# Altium footprint library LQFP-32_7x7x08P.PcbLib: 1 footprints
Each footprint in its own frame and in the unit in brackets; x right, y up, seen from the top. Pads: shape width x height; smd on the part's side, far side on the other; paste and mask are expansions set on the pad; w line width, h text height; cw(c..) or ccw(c..) is an arc to the next point about the centre after c.
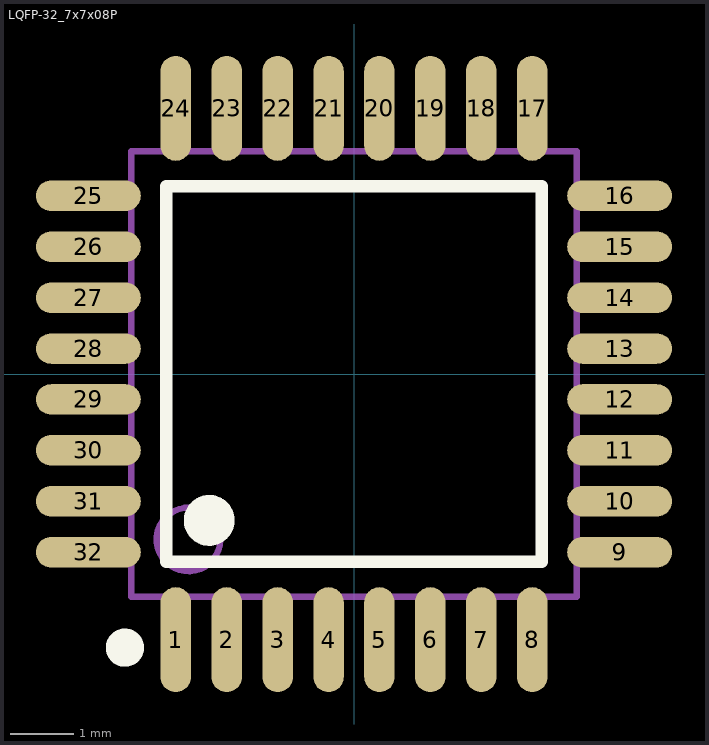
[diagram p0: the footprint, top view; thin cyan lines are the x and y axes]

## LQFP-32_7x7x08P [mm]
pads (32):
  oval 0.48x1.65 smd: 1(-2.8,-4.175) 2(-2,-4.175) 3(-1.2,-4.175) 4(-0.4,-4.175) 5(0.4,-4.175) 6(1.2,-4.175) 7(2,-4.175) 8(2.8,-4.175) 17(2.8,4.175) 18(2,4.175) 19(1.2,4.175) 20(0.4,4.175) 21(-0.4,4.175) 22(-1.2,4.175) 23(-2,4.175) 24(-2.8,4.175)
  oval 1.65x0.48 smd: 9(4.175,-2.8) 10(4.175,-2) 11(4.175,-1.2) 12(4.175,-0.4) 13(4.175,0.4) 14(4.175,1.2) 15(4.175,2) 16(4.175,2.8) 25(-4.175,2.8) 26(-4.175,2) 27(-4.175,1.2) 28(-4.175,0.4) 29(-4.175,-0.4) 30(-4.175,-1.2) 31(-4.175,-2) 32(-4.175,-2.8)
Top Overlay:
  circle w0.4: c-2.275,-2.3 r0.2
  circle w0.3: c-3.6,-4.3 r0.15
  lines w0.2: -2.95,-2.95 -2.95,2.95 2.95,2.95 2.95,-2.95 -2.95,-2.95
Mechanical 13:
  circle w0.1: c-2.6,-2.6 r0.5
  lines w0.1: -3.5,-3.5 -3.5,3.5 3.5,3.5 3.5,-3.5 -3.5,-3.5